# Altium footprint library Con Card.PcbLib: 5 footprints
Each footprint in its own frame and in the unit in brackets; x right, y up, seen from the top. Pads: shape width x height; smd on the part's side, far side on the other; paste and mask are expansions set on the pad; w line width, h text height; cw(c..) or ccw(c..) is an arc to the next point about the centre after c.
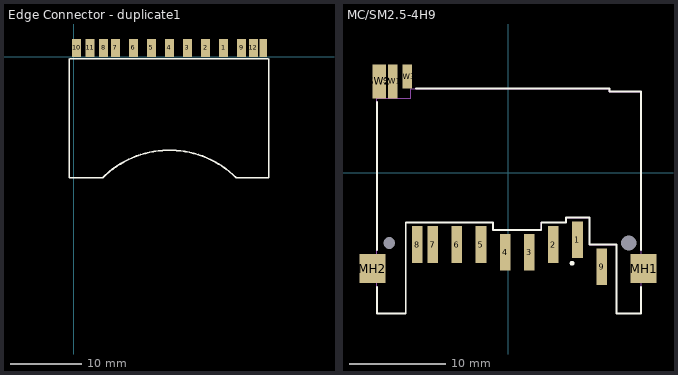
[diagram p0: the footprints below, top view; thin cyan lines are the x and y axes]

## Edge Connector [mm]

## Edge Connector - duplicate [mm]

## Edge Connector - duplicate1 [mm]
pads (13):
  rect 1.26x2.5 smd: 1(21.082,1.27) 2(18.542,1.27) 3(16.002,1.27) 4(13.462,1.27) 5(10.922,1.27) 6(8.382,1.27) 7(5.842,1.27) 8(4.191,1.27) 9(23.622,1.27) 10(0.381,1.27) 11(2.286,1.27) 12(25.273,1.27)
  rect 1x2.5 smd: 13(26.67,1.27)
Top Overlay:
  lines w0.254: -0.635,-0.254 -0.635,-17.018 4.064,-17.018 cw(c13.462,-26.416) 22.86,-17.018 27.432,-17.018 27.432,-0.254 ; -0.508,-0.254 27.305,-0.254
Drill Drawing:
  circle w0.127: c0.762,-1.905 r0.967
  circle w0.127: c25.273,-2.159 r0.967
  lines w0.254: -4.445,-14.732 -4.445,-12.192 -0.381,-12.192 -0.381,-14.732 -4.445,-14.732 ; 27.178,-14.605 31.242,-14.605 31.242,-12.065 27.178,-12.065 27.178,-14.605

## MC/SM2.5-4H9 [mm] "Connector; SD Card Type A, SM, 9 Position, Right Angle, Pitch 2.5 mm, Body 23.3 x 27.4 x 3.4 mm (LxWxH)"
height 3.4
pads (16):
  rect 1.1x3.79 smd: 1(7.2,-6.955) 2(4.7,-7.455) 3(2.2,-8.255) 4(-0.3,-8.255) 5(-2.8,-7.455) 6(-5.3,-7.455) 7(-7.8,-7.455) 8(-9.425,-7.455) 9(9.7,-9.755)
  rect 2.7x3 smd: MH1(14.05,-9.95) MH2(-14.05,-9.95)
  round 0.9 hole 1.2 unplated: MH3(-12.3,-7.3)
  round 1.3 hole 1.6 unplated: MH4(12.5,-7.3)
  rect 1x3.5 smd: SW1(-11.95,9.45)
  rect 1.4x3.5 smd: SW2(-13.35,9.45)
  rect 1x2.5 smd: SW3(-10.45,9.95)
Top Overlay:
  circle w0.25: c6.65,-9.4 r0.125
  lines w0.2: -13.6,-11.85 -13.6,-14.6 -10.6,-14.6 -10.6,-5.155 -1.55,-5.155 -1.55,-5.955 3.45,-5.955 3.45,-5.155 6,-5.155 6,-4.655 8.45,-4.655 8.45,-7.455 11.25,-7.455 11.25,-14.6 13.8,-14.6 13.8,-11.85 ; -13.6,-8.05 -13.6,7.3 ; -9.55,8.7 10.5,8.7 10.5,8.4 13.8,8.4 13.8,-8.05
Mechanical 13:
  lines w0.1: -10.1,7.695 -10.1,8.695 ; -10.1,7.7 -13.6,7.7 -13.6,-14.6 -10.6,-14.6 -10.6,-5.155 -1.55,-5.155 -1.55,-5.955 3.45,-5.955 3.45,-5.155 6,-5.155 6,-4.655 8.45,-4.655 8.45,-7.455 11.25,-7.455 11.25,-14.6 13.8,-14.6 13.8,8.4 10.5,8.4 10.5,8.7 -10.1,8.7

## PCBComponent_1 [mm]